# Altium footprint library Diode_TINY.PcbLib: 1 footprints
Each footprint in its own frame and in the unit in brackets; x right, y up, seen from the top. Pads: shape width x height; smd on the part's side, far side on the other; paste and mask are expansions set on the pad; w line width, h text height; cw(c..) or ccw(c..) is an arc to the next point about the centre after c.
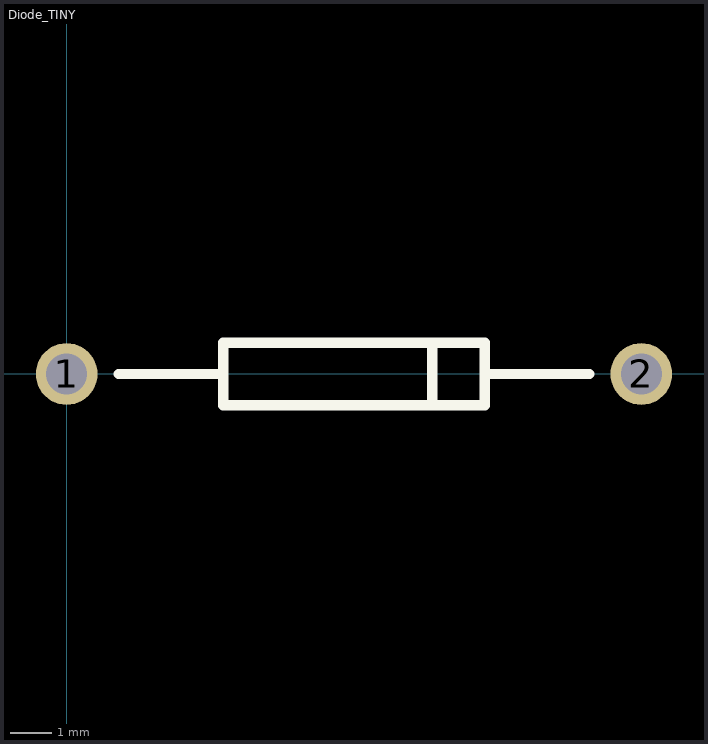
[diagram p0: the footprint, top view; thin cyan lines are the x and y axes]

## Diode_TINY [mm]
pads (2):
  round 1.5 hole 1: 1(0,0) 2(13.97,0)
Top Overlay:
  lines w0.254: 1.27,0 3.81,0 ; 8.89,-0.762 8.89,0.762 ; 10.16,0 12.7,0 ; 3.81,0 3.81,-0.762 10.16,-0.762 10.16,0.762 3.81,0.762 3.81,0